# Altium footprint library SMD Optoelectronics.PcbLib: 12 footprints
Each footprint in its own frame and in the unit in brackets; x right, y up, seen from the top. Pads: shape width x height; smd on the part's side, far side on the other; paste and mask are expansions set on the pad; w line width, h text height; cw(c..) or ccw(c..) is an arc to the next point about the centre after c.
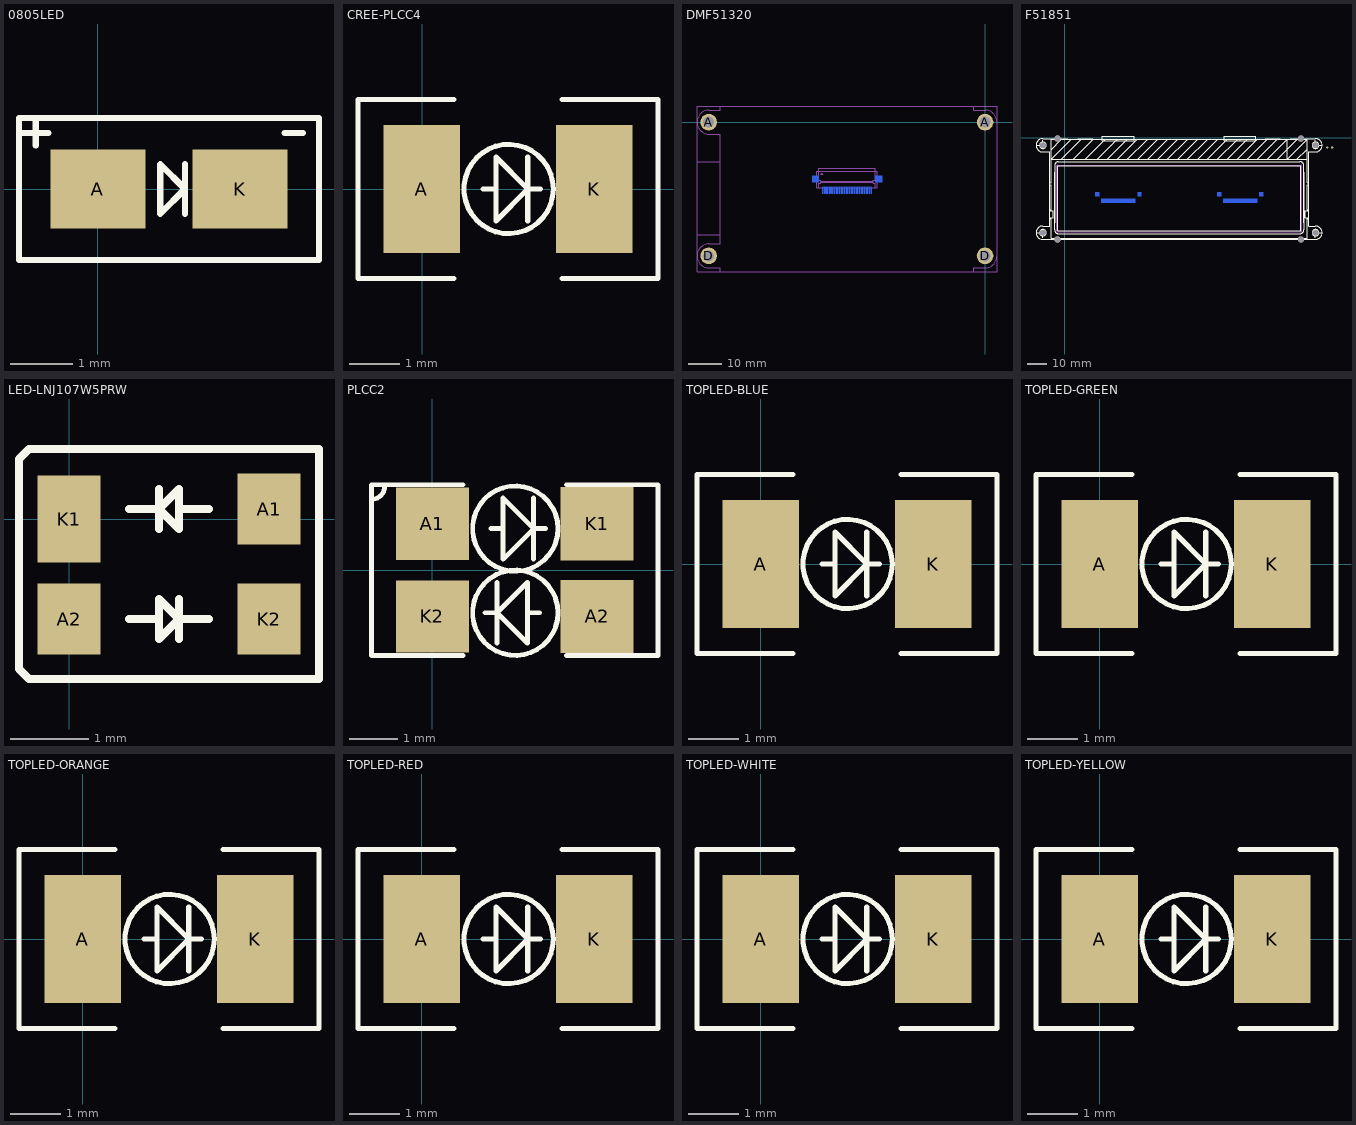
[diagram p0: the footprints below, top view; thin cyan lines are the x and y axes]

## 0805LED [mil]
pads (2):
  rect 60x50 smd: A(0,0) K(90,0)
Top Overlay:
  lines w4: -50,35.43 -31.5,35.43 ; -39.37,27.56 -39.37,43.31 ; 55.12,-15.75 55.12,15.75 ; 118.11,35.43 129.92,35.43 ; -50,-45 -50,45 140,45 140,-45 -50,-45 ; 39.37,-15.75 39.37,15.75 55.12,0 39.37,-15.75

## CREE-PLCC4 [mil]
pads (2):
  rect 60x100 smd: A(-0.2,0) K(134.8,0)
Top Overlay:
  circle w4: c67.8,0 r35
  lines w4: 24.8,-70 -50.2,-70 -50.2,70 24.8,70 ; 82.8,-25 82.8,0 ; 82.8,25 82.8,0 ; 92.8,0 82.8,0 ; 109.8,-70 184.8,-70 184.8,70 109.8,70 ; 57.8,0 57.8,-25 82.8,0 ; 57.8,0 47.8,0 57.8,0 ; 57.8,0 57.8,25 82.8,0
3D body: height 75, standoff 70, extent 7,-50 127,50
3D body: height 61, standoff 60, extent 29.8,-10 49.8,5
3D body: height 61, standoff 60, extent 54.49,-36.96 110.14,36.96
3D body: height 65, standoff 60, extent 47,-20 87,20
3D body: height 11.81, standoff 0, extent -19.73,15 18.65,47.48
3D body: height 43.31, standoff 27.56, extent -19.73,15 -3,47.48
3D body: height 43.31, standoff 0, extent -19.73,15 -7.92,47.48
3D body: height 19.68, standoff 0, extent 39.8,-60 94.8,60
3D body: height 60, standoff 15, extent -3,-60 137.2,60
3D body: height 61, standoff 60, extent -3,37.2 19.8,60
3D body: height 75, standoff 60, extent -3,-60 137.2,60
3D body: height 43.31, standoff 0, extent -19.73,-47.48 -7.92,-15
3D body: height 43.31, standoff 27.56, extent -19.73,-47.48 -3,-15
3D body: height 11.81, standoff 0, extent -19.73,-47.48 18.65,-15
3D body: height 11.81, standoff 0, extent 116.35,15 154.73,47.48
3D body: height 43.31, standoff 27.56, extent 138,15 154.73,47.48
3D body: height 43.31, standoff 0, extent 142.92,15 154.73,47.48
3D body: height 43.31, standoff 0, extent 142.92,-47.48 154.73,-15
3D body: height 43.31, standoff 27.56, extent 138,-47.48 154.73,-15
3D body: height 11.81, standoff 0, extent 116.35,-47.48 154.73,-15

## DMF51320 [mm]
pads (36):
  rect 0.28x2.1 smd far side: 1(-48.729,-20.5)
  oval 0.28x2.1 smd far side: 2(-48.229,-20.5) 3(-47.729,-20.5) 4(-47.229,-20.5) 5(-46.729,-20.5) 6(-46.229,-20.5) 7(-45.729,-20.5) 8(-45.229,-20.5) 9(-44.729,-20.5) 10(-44.229,-20.5) 11(-43.729,-20.5) 12(-43.229,-20.5) 13(-42.729,-20.5) 14(-42.229,-20.5) 15(-41.729,-20.5) 16(-41.229,-20.5) 17(-40.729,-20.5) 18(-40.229,-20.5) 19(-39.729,-20.5) 20(-39.229,-20.5) 21(-38.729,-20.5) 22(-38.229,-20.5) 23(-37.729,-20.5) 24(-37.229,-20.5) 25(-36.729,-20.5) 26(-36.229,-20.5) 27(-35.729,-20.5) 28(-35.229,-20.5) 29(-34.729,-20.5) 30(-34.229,-20.5)
  round 5 hole 3.3: A(-83.058,0) A(0,0) D(-83.058,-40.2) D(0,-40.2)
  rect 2x2 smd far side: M1(-31.929,-17.1) M2(-50.929,-17.1)
Mechanical 1:
  lines w0.102: -86.558,-33.909 -79.502,-33.909 -79.502,-36.603 -81.31,-36.603 -82.961,-36.603 ccw(c-82.961,-40.2) -86.558,-40.2 ccw(c-82.961,-40.2) -82.961,-43.797 -81.31,-43.797 -79.532,-43.797 -79.532,-45 ; -86.558,-11.938 -79.502,-11.938 ; -81.31,-45 -81.183,-45 ; -81.31,4.8 -81.183,4.8 ; -80.01,-36.603 -79.532,-36.603 -79.532,-3.597 -81.31,-3.597 -82.961,-3.597 cw(c-82.961,0) -86.558,0 cw(c-82.961,0) -82.961,3.597 -81.31,3.597 -79.532,3.597 -79.532,4.8 ; -79.532,-44.391 -79.532,-44.01 ; -79.532,3.81 -79.532,4.191 ; -49.929,-19.7 -49.929,-18.4 -49.429,-18.4 -49.429,-18 -38.629,-18 ; -44.329,-18 -33.529,-18 -33.529,-18.4 -33.029,-18.4 -33.029,-19.7 ; -42.729,-13.9 -32.929,-13.9 -32.929,-17.4 -33.529,-17.4 -33.529,-17.8 -42.629,-17.8 ; -40.329,-17.8 -49.429,-17.8 -49.429,-17.4 -50.029,-17.4 -50.029,-13.9 -40.229,-13.9 ; -33.729,-19.7 -33.429,-19.7 ; -3.429,-45 -3.429,-43.797 -1.651,-43.797 0,-43.797 ccw(c0,-40.2) 3.597,-40.2 ; -3.429,-44.391 -3.429,-44.01 ; -3.429,3.81 -3.429,4.191 ; -3.429,4.8 -3.429,3.597 -1.651,3.597 0,3.597 cw(c0,0) 3.597,0 ; -1.778,-45 -1.651,-45 ; -1.778,4.8 -1.651,4.8 ; -33.029,-19.7 -33.029,-19.7 ; -86.558,-45 -86.558,4.8 3.597,4.8 3.597,-45 -86.558,-45 ; -50.529,-19.7 -35.929,-19.7 -32.429,-19.7 -32.429,-14.9 -32.429,-14.8 -32.529,-14.8 -45.629,-14.8 -50.529,-14.8 -50.529,-19.7 ; -49.429,-15.6 -49.129,-15.3 -48.829,-15.6 -49.429,-15.6

## F51851 [mm]
pads (86):
  rect 0.28x2.1 smd far side: A1(19.271,-32.9) B1(82.871,-32.9)
  oval 0.28x2.1 smd far side: A2(19.771,-32.9) A3(20.271,-32.9) A4(20.771,-32.9) A5(21.271,-32.9) A6(21.771,-32.9) A7(22.271,-32.9) A8(22.771,-32.9) A9(23.271,-32.9) A10(23.771,-32.9) A11(24.271,-32.9) A12(24.771,-32.9) A13(25.271,-32.9) A14(25.771,-32.9) A15(26.271,-32.9) A16(26.771,-32.9) A17(27.271,-32.9) A18(27.771,-32.9) A19(28.271,-32.9) A20(28.771,-32.9) A21(29.271,-32.9) A22(29.771,-32.9) A23(30.271,-32.9) A24(30.771,-32.9) A25(31.271,-32.9) A26(31.771,-32.9) A27(32.271,-32.9) A28(32.771,-32.9) A29(33.271,-32.9) A30(33.771,-32.9) A31(34.271,-32.9) A32(34.771,-32.9) A33(35.271,-32.9) A34(35.771,-32.9) A35(36.271,-32.9) A36(36.771,-32.9) B2(83.371,-32.9) B3(83.871,-32.9) B4(84.371,-32.9) B5(84.871,-32.9) B6(85.371,-32.9) B7(85.871,-32.9) B8(86.371,-32.9) B9(86.871,-32.9) B10(87.371,-32.9) B11(87.871,-32.9) B12(88.371,-32.9) B13(88.871,-32.9) B14(89.371,-32.9) B15(89.871,-32.9) B16(90.371,-32.9) B17(90.871,-32.9) B18(91.371,-32.9) B19(91.871,-32.9) B20(92.371,-32.9) B21(92.871,-32.9) B22(93.371,-32.9) B23(93.871,-32.9) B24(94.371,-32.9) B25(94.871,-32.9) B26(95.371,-32.9) B27(95.871,-32.9) B28(96.371,-32.9) B29(96.871,-32.9) B30(97.371,-32.9) B31(97.871,-32.9) B32(98.371,-32.9) B33(98.871,-32.9) B34(99.371,-32.9) B35(99.871,-32.9) B36(100.371,-32.9)
  round 1.2 hole 0.8: LED+(137.16,-5.08) LED-(139.7,-5.08)
  round 3.1 hole 3.1 unplated: M1(-11.4,-49.6) M1(-11.4,-3.901) M1(131,-49.6) M1(131,-3.901)
  rect 2x2 smd far side: M1(39.071,-29.5) M2(17.071,-29.5) M3(80.671,-29.5) M4(102.671,-29.5)
  round 3.3 hole 3.3 unplated: M2(-3.8,-53.1) M2(-3.8,-0.401) M2(123.4,-53.1) M2(123.4,-0.401)
Top Overlay:
  circle w0.254: c131,-3.901 r1.7
  circle w0.254: c131,-49.6 r1.7
  circle w0.254: c-11.4,-3.901 r1.7
  circle w0.254: c-11.4,-49.6 r1.7
  lines w0.01: -15,-49.6 -11.4,-49.6 -11.4,-52.3 ; -15,-3.901 -11.4,-3.901 -11.4,-1.201 ; 131,-52.3 131,-49.6 134.6,-49.6 ; 131,-1.201 131,-3.901 134.6,-3.901
  lines w0.102: -7.8,-44.7 -7.8,-9.4 ; -7.8,-43.1 -7.8,-46.099 ; -7.8,-41.8 -6.1,-41.8 -6.1,-38.2 -7.8,-38.2 ; -7.8,-37.6 -7.1,-37.6 -7.1,-24.4 -7.8,-24.4 ; -7.8,-23.5 -7.1,-23.5 -7.1,-0.8 1.6,-0.8 ; -7.8,-10.401 -7.8,-7.403 -11.4,-7.403 cw(c-11.4,-3.901) -11.4,-0.4 1.6,-0.4 1.6,-0.8 ; -7.1,-6.2 -1.7,-0.8 ; -6.4,-52.6 126.7,-52.6 126.7,-42.4 127.4,-42.4 ; -5.3,-44.5 -5.3,-14.5 cw(c-3.3,-14.5) -3.3,-12.5 19.3,-12.5 ; -5.3,-18.1 -5.3,-48.1 ccw(c-3.3,-48.1) -3.3,-50.1 19.3,-50.1 100.3,-50.1 122.9,-50.1 ccw(c122.9,-48.1) 124.9,-48.1 124.9,-18.1 ; -3.7,-40.4 -3.7,-48.3 -3.7,-48.6 ; -1.8,-11.3 8.7,-0.8 ; 3.4,-0.8 -7.1,-11.3 126.7,-11.3 ; 4,-53.101 116.7,-53.101 ; 4.3,-53.101 -11.4,-53.101 cw(c-11.4,-49.6) -11.4,-46.099 -7.8,-46.099 ; 4.4,-11.3 14.9,-0.8 ; 8.5,-48.6 123.4,-48.6 123.4,-46.5 ; 10.6,-11.3 21.1,-0.8 ; 13.1,-48.6 0.5,-48.6 -1.3,-48.6 -3.7,-48.6 ; 16.9,-11.3 27.4,-0.8 ; 18,-12.5 101.2,-12.5 ; 22.2,-11.3 32.7,-0.8 ; 27.5,-11.3 38,-0.8 ; 32.8,-11.3 43.3,-0.8 ; 38.1,-11.3 48.6,-0.8 ; 43.3,-11.3 53.8,-0.8 ; 48.6,-11.3 59.1,-0.8 ; 53.7,-11.3 64.2,-0.8 ; 59,-11.3 69.5,-0.8 ; 64.1,-11.3 74.6,-0.8 ; 69.4,-11.3 79.9,-0.8 ; 74.5,-11.3 85,-0.8 ; 79.8,-11.3 90.3,-0.8 ; 84.9,-11.3 95.4,-0.8 ; 90.2,-11.3 100.7,-0.8 ; 95.3,-11.3 105.8,-0.8 ; 100.3,-12.5 122.9,-12.5 cw(c122.9,-14.5) 124.9,-14.5 124.9,-44.5 ; 100.6,-11.3 111.1,-0.8 ; 115.3,-53.101 131,-53.101 ccw(c131,-49.6) 131,-46.099 127.4,-46.099 127.4,-43.1 ; 116.2,-0.9 116.2,-11.3 126.7,-0.8 ; 116.2,-0.8 105.7,-11.3 111,-11.3 121.5,-0.8 ; 117.1,-14.7 123.4,-14.7 123.4,-47 ; 121.3,-11.3 126.7,-5.9 ; 121.4,-14.7 -3.7,-14.7 -3.7,-48.6 ; 126,-52.6 -7.1,-52.6 -7.1,-42.4 -7.8,-42.4 -7.8,-46.099 ; 127.4,-44.5 127.4,-9 ; 127.4,-41.8 125.7,-41.8 125.7,-38.2 127.4,-38.2 ; 127.4,-37.6 126.7,-37.6 126.7,-24.4 127.4,-24.4 ; 127.4,-23.5 126.7,-23.5 126.7,-0.8 ; 1.6,-0.8 7,-0.8 ; 7,-0.8 7,-0.4 14.7,-0.4 14.7,-0.8 ; 7,-0.8 14.7,-0.8 ; 14.7,-0.8 104.1,-0.8 104.9,-0.8 ; 28,-1.5 36.3,-1.5 36.3,-0.4 36.3,0.7 28,0.7 ; 28,-1.5 28,-1.4 28,-1.5 ; 28,-1.5 19.7,-1.5 19.7,-0.4 19.7,0.7 28,0.7 ; 28,0.7 28,0.6 28,0.7 ; 91.6,-1.5 99.9,-1.5 99.9,-0.4 99.9,0.7 91.6,0.7 ; 91.6,-1.5 91.6,-1.4 91.6,-1.5 ; 91.6,-1.5 83.3,-1.5 83.3,-0.4 83.3,0.7 91.6,0.7 ; 91.6,0.7 91.6,0.6 91.6,0.7 ; 104.9,-0.8 112.6,-0.8 ; 104.9,-0.8 104.9,-0.4 112.6,-0.4 112.6,-0.8 ; 112.6,-0.8 118,-0.8 ; 118,-0.8 126.7,-0.8 ; 118,-0.8 118,-0.4 131,-0.4 cw(c131,-3.901) 131,-7.403 127.4,-7.403 ; 127.4,-7.403 127.4,-10.401 127.4,-7.403
Bottom Overlay:
  lines w0.102: 18.071,-32.1 18.071,-30.8 18.571,-30.8 18.571,-30.4 29.371,-30.4 ; 23.671,-30.4 34.471,-30.4 37.471,-30.4 37.471,-30.8 37.971,-30.8 37.971,-32.1 ; 25.271,-26.3 35.071,-26.3 38.071,-26.3 38.071,-29.8 37.471,-29.8 37.471,-30.2 34.471,-30.2 25.371,-30.2 ; 27.671,-30.2 18.571,-30.2 18.571,-29.8 17.971,-29.8 17.971,-26.3 27.771,-26.3 ; 35.3,-32.1 37.271,-32.1 37.571,-32.1 38.571,-32.1 38.571,-27.3 38.571,-27.2 38.471,-27.2 35.471,-27.2 22.371,-27.2 17.471,-27.2 17.471,-32.1 32.071,-32.1 35.571,-32.1 ; 81.671,-32.1 81.671,-30.8 82.171,-30.8 82.171,-30.4 92.971,-30.4 ; 87.271,-30.4 98.071,-30.4 101.071,-30.4 101.071,-30.8 101.571,-30.8 101.571,-32.1 ; 88.871,-26.3 98.671,-26.3 ; 88.971,-30.2 98.071,-30.2 101.071,-30.2 101.071,-29.8 101.671,-29.8 101.671,-26.3 98.671,-26.3 ; 91.271,-30.2 82.171,-30.2 82.171,-29.8 81.571,-29.8 81.571,-26.3 91.371,-26.3 ; 98.9,-32.1 100.871,-32.1 101.171,-32.1 102.171,-32.1 102.171,-27.3 102.171,-27.2 102.071,-27.2 99.071,-27.2 85.971,-27.2 81.071,-27.2 81.071,-32.1 95.671,-32.1 99.171,-32.1 ; 37.971,-32.1 37.971,-32.1 ; 101.571,-32.1 101.571,-32.1 ; 18.571,-28 18.871,-27.7 19.171,-28 18.571,-28 ; 82.171,-28 82.471,-27.7 82.771,-28 82.171,-28 ; 135.255,-7.62 141.732,-7.62 141.732,-2.413 135.255,-2.413 135.255,-7.62
Mechanical 1:
  lines w0.102: -4.064,-48.641 ccw(c-3.683,-48.641) -3.683,-49.022 123.444,-49.022 ccw(c123.444,-48.641) 123.825,-48.641 123.825,-14.732 ccw(c123.444,-14.732) 123.444,-14.351 -3.683,-14.351 ccw(c-3.683,-14.732) -4.064,-14.732 -4.064,-48.641

## LED-LNJ107W5PRW [mm]
pads (4):
  rect 0.8x0.9 smd: A1(2.54,0.127) A2(0,-1.27) K2(2.54,-1.27)
  rect 0.8x1.1 smd: K1(0,0)
Top Overlay:
  lines w0.102: 0.762,-1.27 1.143,-1.27 ; 0.762,0.127 1.143,0.127 ; 1.143,-0.127 1.143,0.127 ; 1.143,0.381 1.143,0.127 ; 1.397,-1.524 1.397,-1.27 ; 1.397,-1.016 1.397,-1.27 ; 1.397,0.127 1.778,0.127 ; 1.778,-1.27 1.397,-1.27 ; 1.143,0.127 1.397,-0.127 1.397,0.381 1.143,0.127 ; 1.397,-1.27 1.143,-1.016 1.143,-1.524 1.397,-1.27 ; -0.635,-1.905 -0.508,-2.032 3.175,-2.032 3.175,-1.905 3.175,0.762 3.175,0.889 -0.508,0.889 -0.635,0.762 -0.635,-1.905

## PLCC2 [mil]
pads (4):
  rect 60x59.06 smd: A1(0,38) K2(0,-38)
  rect 60x60 smd: A2(135,-38) K1(135,38)
Top Overlay:
  circle w4: c68,34 r35
  circle w4: c68,-35 r35
  lines w4: -50,58 ccw(c-50,69) -39,69 -39,70 ; 25,-70 -50,-70 -50,70 25,70 ; 43,-35 53,-35 ; 53,-60 53,-35 ; 53,-10 53,-35 ; 83,9 83,34 ; 83,59 83,34 ; 93,34 83,34 ; 110,-70 185,-70 185,70 110,70 ; 53,-35 78,-60 78,-35 ; 53,-35 78,-10 78,-35 ; 58,34 48,34 58,34 ; 58,34 58,59 83,34 ; 58,34 58,9 83,34 ; 78,-35 88,-35 78,-35

## TOPLED-BLUE [mil]
pads (2):
  rect 60x100 smd: A(0,0) K(135,0)
Top Overlay:
  circle w4: c68,0 r35
  lines w4: 25,-70 -50,-70 -50,70 25,70 ; 83,-25 83,0 ; 83,25 83,0 ; 93,0 83,0 ; 110,-70 185,-70 185,70 110,70 ; 58,0 48,0 58,0 ; 58,0 58,25 83,0 ; 58,0 58,-25 83,0
3D body: height 61, standoff 60, extent -2.8,-60 20,-37.2
3D body: height 70, standoff 60, extent 29.65,-40.35 110.35,40.35
3D body: height 60, standoff 15, extent -2.8,-60 137.4,60
3D body: height 19.68, standoff 0, extent 40,-60 95,60
3D body: height 43.31, standoff 0, extent -19.53,-31.5 -7.72,32.48
3D body: height 43.31, standoff 27.56, extent -19.53,-31.5 -2.8,32.48
3D body: height 11.81, standoff 0, extent -19.53,-31.5 18.86,32.48
3D body: height 11.81, standoff 0, extent 115.75,-31.5 154.13,32.48
3D body: height 43.31, standoff 27.56, extent 137.4,-31.5 154.13,32.48
3D body: height 43.31, standoff 0, extent 142.32,-31.5 154.13,32.48
3D body: height 75, standoff 60, extent -2.8,-60 137.4,60
3D body: height 65, standoff 60, extent 60,-10 75,5
3D body: height 61, standoff 60, extent 54.69,-36.96 110.35,36.96
3D body: height 61, standoff 60, extent 30,-10 50,5

## TOPLED-GREEN [mil]
pads (2):
  rect 60x100 smd: A(0,0) K(135,0)
Top Overlay:
  circle w4: c68,0 r35
  lines w4: 25,-70 -50,-70 -50,70 25,70 ; 83,-25 83,0 ; 83,25 83,0 ; 93,0 83,0 ; 110,-70 185,-70 185,70 110,70 ; 58,0 48,0 58,0 ; 58,0 58,25 83,0 ; 58,0 58,-25 83,0
3D body: height 61, standoff 60, extent -2.8,-60 20,-37.2
3D body: height 70, standoff 60, extent 29.65,-40.35 110.35,40.35
3D body: height 60, standoff 15, extent -2.8,-60 137.4,60
3D body: height 19.68, standoff 0, extent 40,-60 95,60
3D body: height 43.31, standoff 0, extent -19.53,-31.5 -7.72,32.48
3D body: height 43.31, standoff 27.56, extent -19.53,-31.5 -2.8,32.48
3D body: height 11.81, standoff 0, extent -19.53,-31.5 18.86,32.48
3D body: height 11.81, standoff 0, extent 115.75,-31.5 154.13,32.48
3D body: height 43.31, standoff 27.56, extent 137.4,-31.5 154.13,32.48
3D body: height 43.31, standoff 0, extent 142.32,-31.5 154.13,32.48
3D body: height 75, standoff 60, extent -2.8,-60 137.4,60
3D body: height 65, standoff 60, extent 60,-10 75,5
3D body: height 61, standoff 60, extent 54.69,-36.96 110.35,36.96
3D body: height 61, standoff 60, extent 30,-10 50,5

## TOPLED-ORANGE [mil]
pads (2):
  rect 60x100 smd: A(0,0) K(135,0)
Top Overlay:
  circle w4: c68,0 r35
  lines w4: 25,-70 -50,-70 -50,70 25,70 ; 83,-25 83,0 ; 83,25 83,0 ; 93,0 83,0 ; 110,-70 185,-70 185,70 110,70 ; 58,0 48,0 58,0 ; 58,0 58,25 83,0 ; 58,0 58,-25 83,0
3D body: height 61, standoff 60, extent -2.8,-60 20,-37.2
3D body: height 70, standoff 60, extent 29.65,-40.35 110.35,40.35
3D body: height 60, standoff 15, extent -2.8,-60 137.4,60
3D body: height 19.68, standoff 0, extent 40,-60 95,60
3D body: height 43.31, standoff 0, extent -19.53,-31.5 -7.72,32.48
3D body: height 43.31, standoff 27.56, extent -19.53,-31.5 -2.8,32.48
3D body: height 11.81, standoff 0, extent -19.53,-31.5 18.86,32.48
3D body: height 11.81, standoff 0, extent 115.75,-31.5 154.13,32.48
3D body: height 43.31, standoff 27.56, extent 137.4,-31.5 154.13,32.48
3D body: height 43.31, standoff 0, extent 142.32,-31.5 154.13,32.48
3D body: height 75, standoff 60, extent -2.8,-60 137.4,60
3D body: height 65, standoff 60, extent 60,-10 75,5
3D body: height 61, standoff 60, extent 54.69,-36.96 110.35,36.96
3D body: height 61, standoff 60, extent 30,-10 50,5

## TOPLED-RED [mil]
pads (2):
  rect 60x100 smd: A(0,0) K(135,0)
Top Overlay:
  circle w4: c68,0 r35
  lines w4: 25,-70 -50,-70 -50,70 25,70 ; 83,-25 83,0 ; 83,25 83,0 ; 93,0 83,0 ; 110,-70 185,-70 185,70 110,70 ; 58,0 58,-25 83,0 ; 58,0 48,0 58,0 ; 58,0 58,25 83,0
3D body: height 61, standoff 60, extent 30,-10 50,5
3D body: height 61, standoff 60, extent 54.69,-36.96 110.35,36.96
3D body: height 65, standoff 60, extent 60,-10 75,5
3D body: height 75, standoff 60, extent -2.8,-60 137.4,60
3D body: height 43.31, standoff 0, extent 142.32,-31.5 154.13,32.48
3D body: height 43.31, standoff 27.56, extent 137.4,-31.5 154.13,32.48
3D body: height 11.81, standoff 0, extent 115.75,-31.5 154.13,32.48
3D body: height 11.81, standoff 0, extent -19.53,-31.5 18.86,32.48
3D body: height 43.31, standoff 27.56, extent -19.53,-31.5 -2.8,32.48
3D body: height 43.31, standoff 0, extent -19.53,-31.5 -7.72,32.48
3D body: height 19.68, standoff 0, extent 40,-60 95,60
3D body: height 60, standoff 15, extent -2.8,-60 137.4,60
3D body: height 70, standoff 60, extent 29.65,-40.35 110.35,40.35
3D body: height 61, standoff 60, extent -2.8,-60 20,-37.2

## TOPLED-WHITE [mil]
pads (2):
  rect 60x100 smd: A(0,0) K(135,0)
Top Overlay:
  circle w4: c68,0 r35
  lines w4: 25,-70 -50,-70 -50,70 25,70 ; 83,-25 83,0 ; 83,25 83,0 ; 93,0 83,0 ; 110,-70 185,-70 185,70 110,70 ; 58,0 48,0 58,0 ; 58,0 58,25 83,0 ; 58,0 58,-25 83,0
3D body: height 61, standoff 60, extent -2.8,-60 20,-37.2
3D body: height 70, standoff 60, extent 29.65,-40.35 110.35,40.35
3D body: height 60, standoff 15, extent -2.8,-60 137.4,60
3D body: height 19.68, standoff 0, extent 40,-60 95,60
3D body: height 43.31, standoff 0, extent -19.53,-31.5 -7.72,32.48
3D body: height 43.31, standoff 27.56, extent -19.53,-31.5 -2.8,32.48
3D body: height 11.81, standoff 0, extent -19.53,-31.5 18.86,32.48
3D body: height 11.81, standoff 0, extent 115.75,-31.5 154.13,32.48
3D body: height 43.31, standoff 27.56, extent 137.4,-31.5 154.13,32.48
3D body: height 43.31, standoff 0, extent 142.32,-31.5 154.13,32.48
3D body: height 75, standoff 60, extent -2.8,-60 137.4,60
3D body: height 65, standoff 60, extent 60,-10 75,5
3D body: height 61, standoff 60, extent 54.69,-36.96 110.35,36.96
3D body: height 61, standoff 60, extent 30,-10 50,5

## TOPLED-YELLOW [mil]
pads (2):
  rect 60x100 smd: A(0,0) K(135,0)
Top Overlay:
  circle w4: c68,0 r35
  lines w4: 25,-70 -50,-70 -50,70 25,70 ; 83,-25 83,0 ; 83,25 83,0 ; 93,0 83,0 ; 110,-70 185,-70 185,70 110,70 ; 58,0 58,-25 83,0 ; 58,0 48,0 58,0 ; 58,0 58,25 83,0
3D body: height 61, standoff 60, extent 30,-10 50,5
3D body: height 61, standoff 60, extent 54.69,-36.96 110.35,36.96
3D body: height 65, standoff 60, extent 60,-10 75,5
3D body: height 75, standoff 60, extent -2.8,-60 137.4,60
3D body: height 43.31, standoff 0, extent 142.32,-31.5 154.13,32.48
3D body: height 43.31, standoff 27.56, extent 137.4,-31.5 154.13,32.48
3D body: height 11.81, standoff 0, extent 115.75,-31.5 154.13,32.48
3D body: height 11.81, standoff 0, extent -19.53,-31.5 18.86,32.48
3D body: height 43.31, standoff 27.56, extent -19.53,-31.5 -2.8,32.48
3D body: height 43.31, standoff 0, extent -19.53,-31.5 -7.72,32.48
3D body: height 19.68, standoff 0, extent 40,-60 95,60
3D body: height 60, standoff 15, extent -2.8,-60 137.4,60
3D body: height 70, standoff 60, extent 29.65,-40.35 110.35,40.35
3D body: height 61, standoff 60, extent -2.8,-60 20,-37.2